# EAGLE library part ATWINC1500-MR210PA (library ATWINC1500-MR210PA)
Module 802.11b/g/n 2.484GHz 72000Kbps 28-Pin SMD Module Source: Datasheet <http://ww1.microchip.com/downloads/en/DeviceDoc/atmel-42376-smartconnect-winc1500-mr210pa_datasheet.pdf>
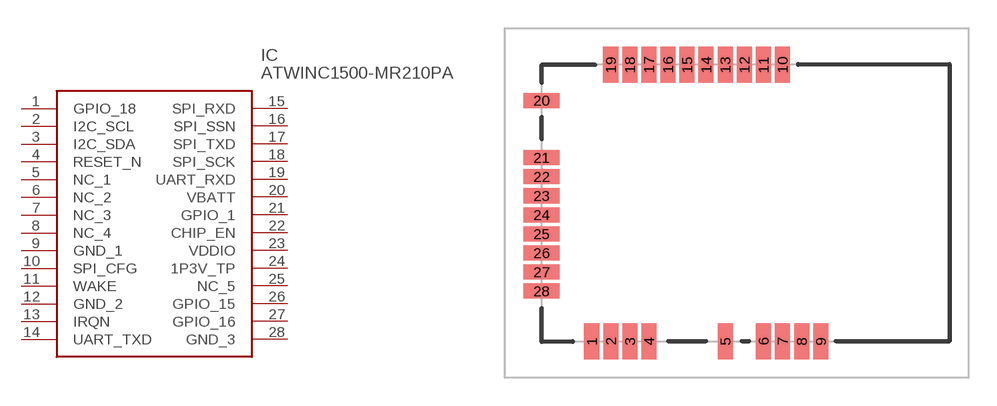
[diagram p0: symbol with the pads of ATWINC1500MR210PA; footprint ATWINC1500MR210PA]

Designator prefix IC

## ATWINC1500-MR210PA (Arrow_Part_Number: ATWINC1500-MR210PA; Arrow_Price-Stock: https://www.arrow.com/en/products/atwinc1500-mr210pa/microchip-technology?region=nac; Description: Module 802.11b/g/n 2.484GHz 72000Kbps 28-Pin SMD Module; Height: 3.353mm; Manufacturer_Name: Microchip; Manufacturer_Part_Number: ATWINC1500-MR210PA; Mouser_Part_Number: 556-WINC1500-MR210PA; Mouser_Price-Stock: https://www.mouser.co.uk/ProductDetail/Microchip-Technology-Atmel/ATWINC1500-MR210PA?qs=C0FNv%2F5jaI9at6Iw6IE9ag%3D%3D)  [ATWINC1500MR210PA]
1  GPIO_18
2  I2C_SCL
3  I2C_SDA
4  RESET_N
5  NC_1
6  NC_2
7  NC_3
8  NC_4
9  GND_1
10  SPI_CFG
11  WAKE
12  GND_2
13  IRQN
14  UART_TXD
15  SPI_RXD
16  SPI_SSN
17  SPI_TXD
18  SPI_SCK
19  UART_RXD
20  VBATT
21  GPIO_1
22  CHIP_EN
23  VDDIO
24  1P3V_TP
25  NC_5
26  GPIO_15
27  GPIO_16
28  GND_3

## Footprint ATWINC1500MR210PA (pad centres in mm)
ATWINC1500-MR210PA-1
smd 0.8 x 1.9: 1 -8.19,-7.365; 2 -7.174,-7.365; 3 -6.158,-7.365; 4 -5.142,-7.365; 5 -1.078,-7.365; 6 0.954,-7.365; 7 1.97,-7.365; 8 2.986,-7.365; 9 4.002,-7.365; 10 1.964,7.365; 11 0.948,7.365; 12 -0.068,7.365; 13 -1.084,7.365; 14 -2.1,7.365; 15 -3.116,7.365; 16 -4.132,7.365; 17 -5.148,7.365; 18 -6.164,7.365; 19 -7.18,7.365
smd 1.9 x 0.8: 20 -10.86,5.465; 21 -10.86,2.417; 22 -10.86,1.401; 23 -10.86,0.385; 24 -10.86,-0.631; 25 -10.86,-1.647; 26 -10.86,-2.663; 27 -10.86,-3.679; 28 -10.86,-4.695